# Altium footprint library PCB1.PcbLib: 26 footprints (part 1 of 2)
Each footprint in its own frame and in the unit in brackets; x right, y up, seen from the top. Pads: shape width x height; smd on the part's side, far side on the other; paste and mask are expansions set on the pad; w line width, h text height; cw(c..) or ccw(c..) is an arc to the next point about the centre after c.
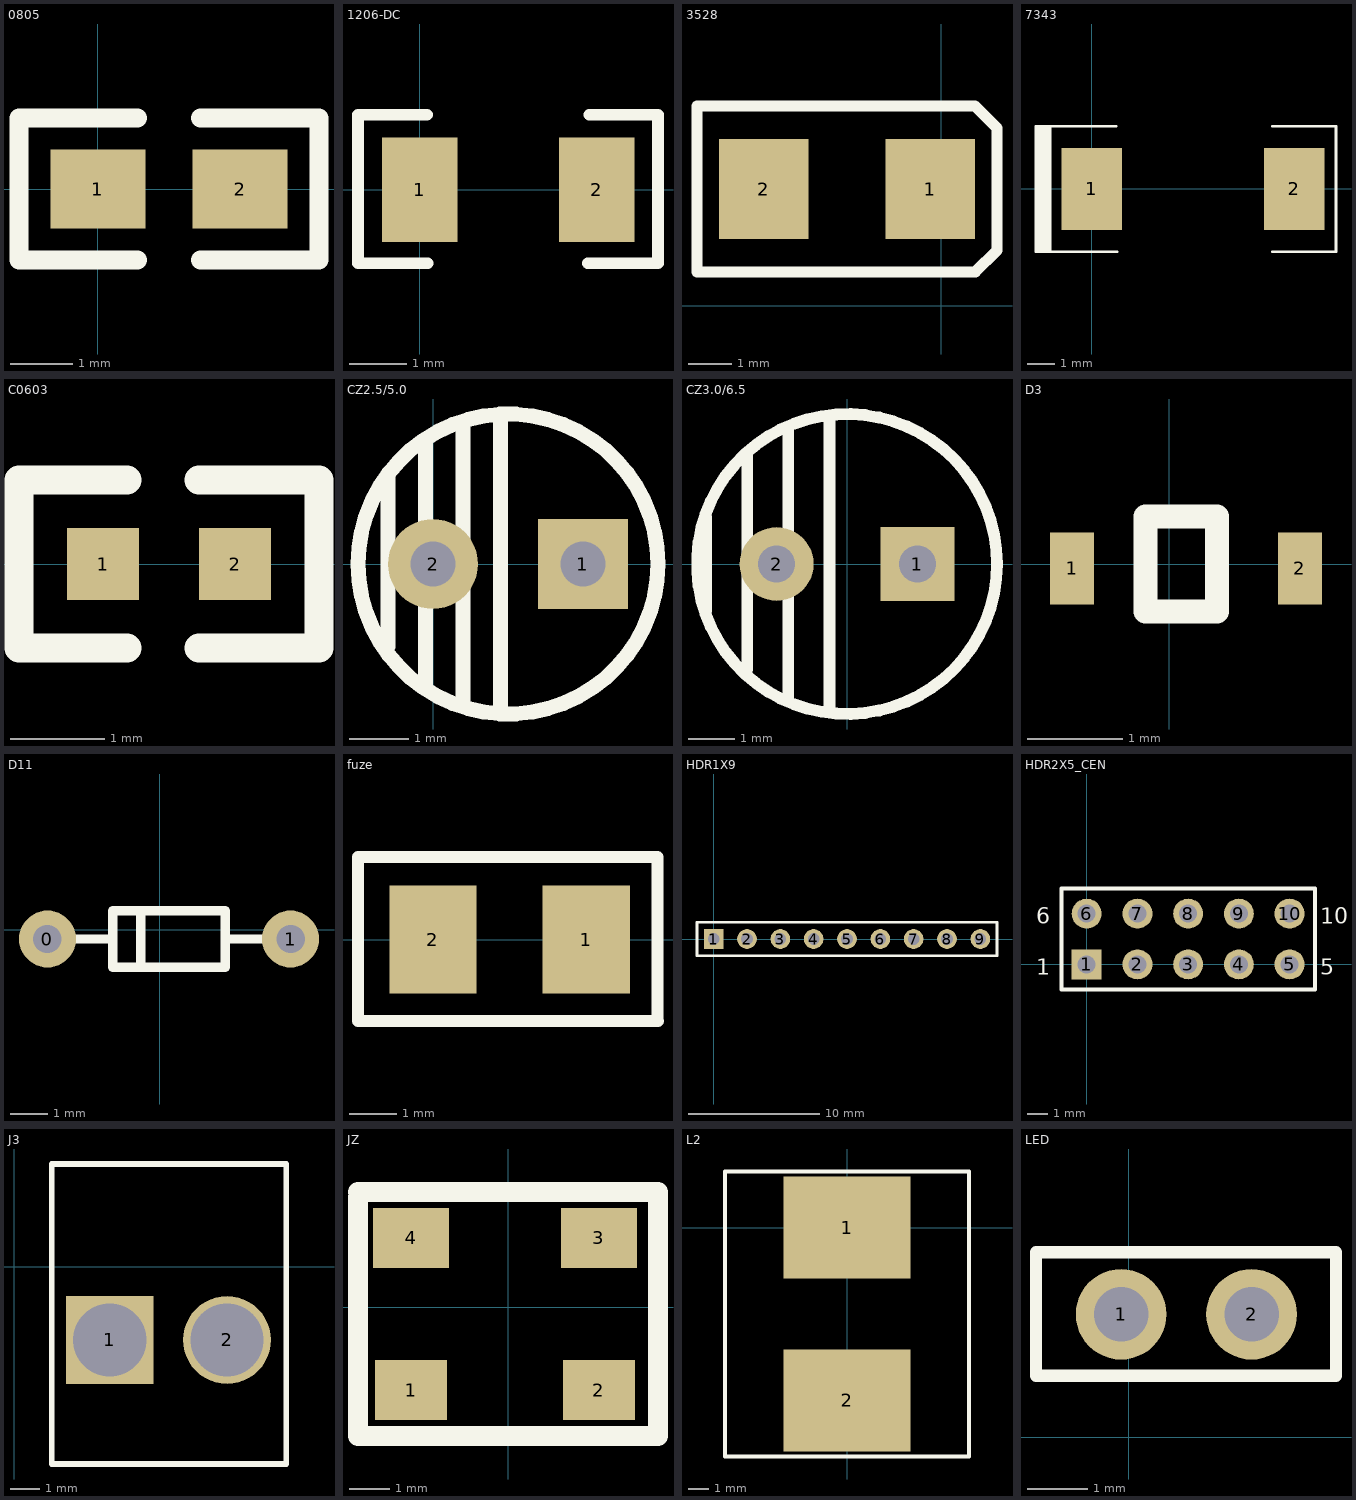
[diagram p0: the footprints below, top view; thin cyan lines are the x and y axes]

## 0805 [mil]
height 250
pads (2):
  rect 60x50 smd: 1(0,0) 2(90,0)
Top Overlay:
  lines w12: 25,-45 -50,-45 -50,45 25,45 ; 65,-45 140,-45 140,45 65,45

## 1206-DC [mil]
pads (2):
  rect 52x72 smd: 1(0,0) 2(122,0)
Top Overlay:
  lines w8: 4.95,51.81 -42.57,51.81 -42.57,-50.52 5.38,-50.52 ; 115.56,-50.52 164.04,-50.52 164.04,51.81 116.74,51.81

## 3528 [mil]
pads (2):
  rect 80.63x90 smd: 1(-10,105) 2(-160,105)
Top Overlay:
  lines w10: -220,30.39 30.39,30.39 50,50 50,160 30,180 -220,180 -220,30.39

## 7343 [mm]
pads (2):
  rect 2.2x3 smd: 1(0,0) 2(7.366,0)
Top Overlay:
  rectangle: -2.034,-2.286 -1.526,2.286
  lines w0.1: 0.889,2.286 -1.524,2.286 ; 0.921,-2.286 -1.524,-2.286 ; 6.572,-2.286 8.89,-2.286 8.89,2.286 6.572,2.286 ; -1.524,-2.286 -2.032,-2.286 -2.032,2.286 -1.524,2.286 ; -1.524,-2.286 -1.524,2.286

## C0603 [mil]
height 39.37
pads (2):
  rect 30x30 smd: 1(-100,0) 2(-45,0)
Top Overlay:
  lines w12: -90,-35 -135,-35 -135,35 -90,35 ; -60,-35 -10,-35 -10,35 -60,35

## CZ2.5/5.0 [mil]
pads (2):
  rect 60x60 hole 30: 1(100,0)
  round 60 hole 30: 2(0,0)
Top Overlay:
  circle w10: c50,0 r100
  lines w10: -30,-55 -30,60 ; -5,-80 -5,80 ; 20,-95 20,95 ; 45,-100 45,100

## CZ3.0/6.5 [mm]
height 12.7
pads (2):
  rect 1.6x1.6 hole 0.8: 1(1.524,0)
  round 1.6 hole 0.8: 2(-1.524,0)
Top Overlay:
  circle w0.254: c0,0 r3.25
  lines w0.254: -3.048,-1.016 -3.048,1.016 ; -2.159,-2.286 -2.159,2.413 ; -1.27,-2.921 -1.27,2.921 ; -0.381,-3.175 -0.381,3.175

## D3 [mil]
pads (2):
  rect 18.19x30 smd: 1(-40.28,-1.84) 2(54.09,-1.84)
Top Overlay:
  lines w10: -9.84,-19.68 -9.84,19.68 19.68,19.68 19.68,-19.68 -9.84,-19.68

## D11 [mil]
pads (2):
  round 60 hole 30: 0(-118,-9.84) 1(137.8,-9.84)
Top Overlay:
  lines w10: -118.11,-9.84 -49.21,-9.84 ; -19.68,-39.37 -19.68,19.68 ; 68.9,-9.84 137.8,-9.84 ; -49.21,-39.37 68.9,-39.37 68.9,19.68 -49.21,19.68 -49.21,-39.37

## fuze [mm]
pads (2):
  rect 1.848x2.286 smd: 1(-9,0) 2(-12.25,0)
Top Overlay:
  lines w0.254: -13.838,-1.728 -13.838,1.75 -7.488,1.75 -7.488,-1.718 -7.478,-1.728 -13.838,-1.728

## HDR1X9 [mm]
pads (9):
  rect 1.5x1.5 hole 0.9: 1(0,0)
  round 1.5 hole 0.9: 2(2.54,0) 3(5.08,0) 4(7.62,0) 5(10.16,0) 6(12.7,0) 7(15.24,0) 8(17.78,0) 9(20.32,0)
Top Overlay:
  lines w0.2: -1.27,-1.27 21.59,-1.27 21.59,1.27 -1.27,1.27 -1.27,-1.27

## HDR2X5_CEN [mm]
pads (10):
  rect 1.5x1.5 hole 0.9: 1(0,0)
  round 1.5 hole 0.9: 2(2.54,0) 3(5.08,0) 4(7.62,0) 5(10.16,0) 6(0,2.54) 7(2.54,2.54) 8(5.08,2.54) 9(7.62,2.54) 10(10.16,2.54)
Top Overlay:
  lines w0.2: -1.27,-1.27 -1.27,3.81 11.43,3.81 11.43,-1.27 -1.27,-1.27
  text "6" at -2.54,2.032 h0.8
  text "10" at 11.684,2.032 h0.8
  text "5" at 11.684,-0.508 h0.8
  text "1" at -2.54,-0.508 h0.8

## J3 [mm]
pads (2):
  rect 3x3 hole 2.5: 1(3.25,-2.5)
  round 3 hole 2.5: 2(7.25,-2.5)
Top Overlay:
  lines w0.2: 1.27,-6.731 9.27,-6.731 ; 1.27,-6.73 1.27,3.5 9.271,3.5 9.271,-6.73

## JZ [mm]
pads (4):
  rect 1.8x1.5 smd: 1(-2.425,-2.076) 2(2.274,-2.076)
  rect 1.9x1.5 smd: 3(2.274,1.734) 4(-2.425,1.734)
Top Overlay:
  lines w0.508: -3.75,1.226 -3.75,2.75 ; -3.75,1.353 -3.75,-1.695 -3.75,-3.219 3.75,-3.219 3.75,2.877 -3.75,2.877

## L2 [mil]
pads (2):
  rect 250x200 smd: 1(0,0) 2(0,-340)
Top Overlay:
  lines w8: -240,-450 -240,110 240,110 240,-450 -240,-450

## LED [mm]
pads (2):
  round 1.5 hole 0.9: 1(-0.127,2.032) 2(2.032,2.032)
Top Overlay:
  lines w0.2: -1.535,1.016 -1.535,3.059 3.429,3.059 3.429,1.016 -1.535,1.016